# Altium footprint library G3MB-202P.PcbLib: 1 footprints
Each footprint in its own frame and in the unit in brackets; x right, y up, seen from the top. Pads: shape width x height; smd on the part's side, far side on the other; paste and mask are expansions set on the pad; w line width, h text height; cw(c..) or ccw(c..) is an arc to the next point about the centre after c.
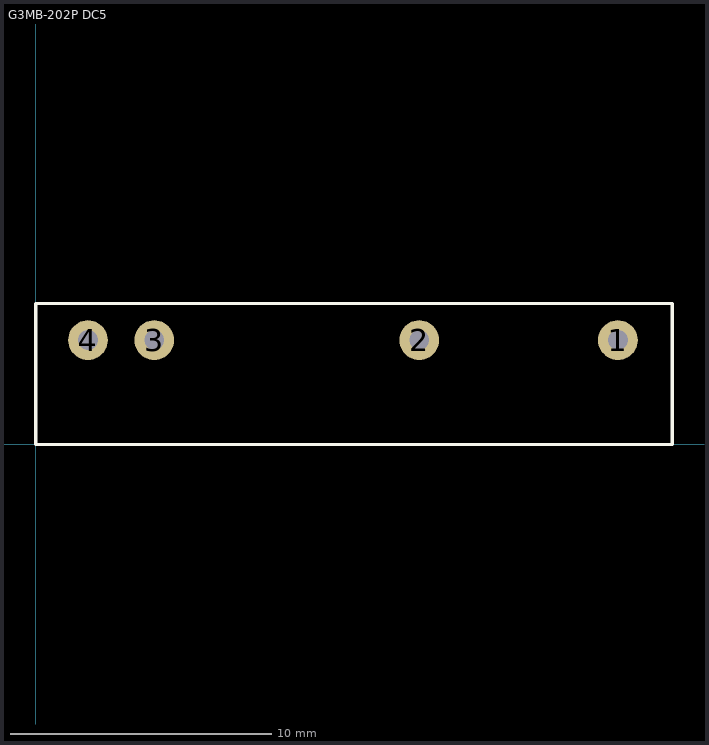
[diagram p0: the footprint, top view; thin cyan lines are the x and y axes]

## G3MB-202P DC5 [mil] "RELAY MINI SSR 240VAC@2A ZERO"
height 787.4
pads (4):
  round 60 hole 30: 1(878.74,157.48) 2(578.74,157.48) 3(178.74,157.48) 4(78.74,157.48)
Top Overlay:
  lines w5: 0,0 0,212.6 960.63,212.6 960.63,0 0,0